# EAGLE library part CON_SERVOS_7 (library joby_robotics)
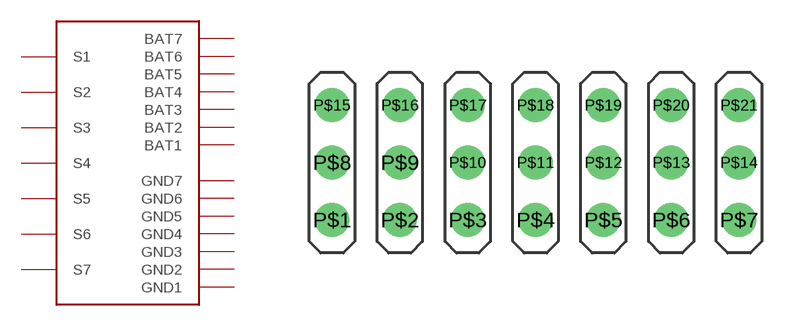
[diagram p3: symbol with the pads of CON_SERVO_7; footprint CON_SERVO_7]

Designator prefix -

## CON_SERVOS_7  [CON_SERVO_7]
P$1  GND1
P$2  GND2
P$3  GND3
P$4  GND4
P$5  GND5
P$6  GND6
P$7  GND7
P$8  BAT1
P$9  BAT2
P$10  BAT3
P$11  BAT4
P$12  BAT5
P$13  BAT6
P$14  BAT7
P$15  S1
P$16  S2
P$17  S3
P$18  S4
P$19  S5
P$20  S6
P$21  S7

## Footprint CON_SERVO_7 (pad centres in mm)
drill 1: P$1 -9,-2.54; P$2 -6,-2.54; P$3 -3,-2.54; P$4 0,-2.54; P$5 3,-2.54; P$6 6,-2.54; P$7 9,-2.54; P$8 -9,0; P$9 -6,0; P$10 -3,0; P$11 0,0; P$12 3,0; P$13 6,0; P$14 9,0; P$15 -9,2.54; P$16 -6,2.54; P$17 -3,2.54; P$18 0,2.54; P$19 3,2.54; P$20 6,2.54; P$21 9,2.54